# Altium schematic symbol library Power_EFR.SchLib: 28 symbols
Pins are listed as number, name and electrical type; pins without a type are passive.

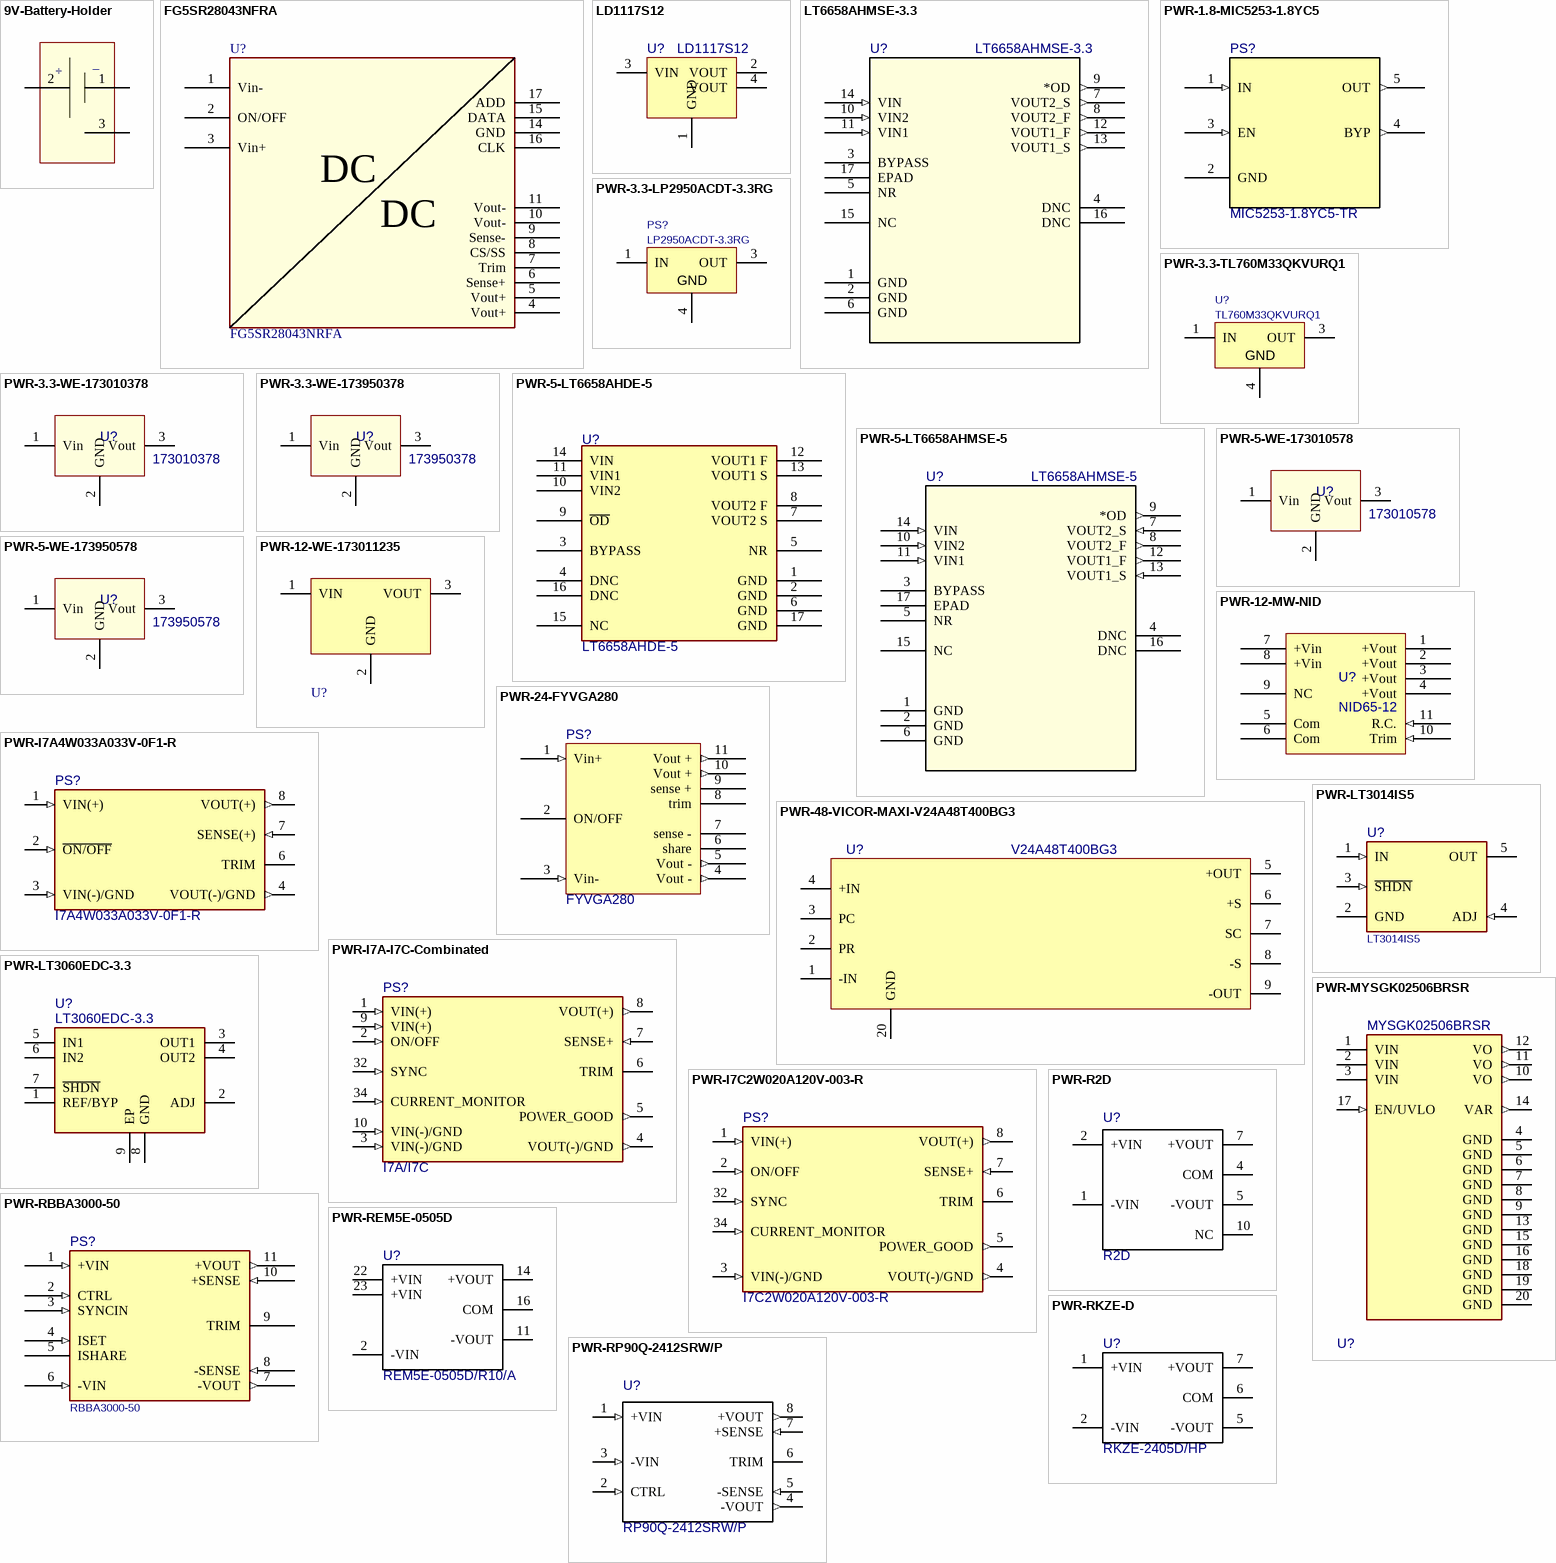
[diagram p0: symbols 9V-Battery-Holder to PWR-RP90Q-2412SRW/P]

## 9V-Battery-Holder
designator ?
footprint 12BH611-GR (9V Battery Holder)
pins: 1, 2, 3
text: _; +

## FG5SR28043NFRA
designator U?, comment PartNumber: FG5SR28043NRFA  (hidden comment: DCDC)  (no BOM)
DC/DC Full Brick Power Converter; Manufactuer: Delta Electronics
pins: 1 Vin- (power), 2 ON/OFF, 3 Vin+ (power), 4 Vout+ (power), 5 Vout+ (power), 6 Sense+, 7 Trim, 8 CS/SS, 9 Sense-, 10 Vout- (power), 11 Vout- (power), 14 GND, 15 DATA, 16 CLK, 17 ADD
text: DC

## LD1117S12
designator U?
Fixed Low Drop Positive Voltage Regulator, 1.2V, 4-Pin SOT-223, Tape and Reel; Manufacturer: STMicroelectronics; PackageDescription: 4-Pin SOT-223 Package, 6.5 x 3.5 mm Body, 2.3 mm Pitch, 7 mm Lead Span; ComponentLink2Description: Datasheet; PackageReference: SOT-223; ComponentLink2URL: http://www.st.com/internet/com/TECHNICAL_RESOURCES/TECHNICAL_LITERATURE/DATASHEET/CD00000544.pdf; ComponentLink1Description: Manufacturer URL; ComponentLink1URL: http://www.st.com; PartNumber: LD1117S12
footprint SOT223_N (SOT223, 4-Leads, Body 6.5x3.5mm, Pitch 2.3mm, Lead Span 7mm, IPC Medium Density)
footprint SOT223_M (SOT223, 4-Leads, Body 6.5x3.5mm, Pitch 2.3mm, Lead Span 7mm, IPC Low Density)
footprint SOT223_L (SOT223, 4-Leads, Body 6.5x3.5mm, Pitch 2.3mm, Lead Span 7mm, IPC High Density)
pins: 1 GND (power), 2 VOUT (power), 3 VIN (power), 4 VOUT (power)

## LT6658AHMSE-3.3
designator U?
Precision Dual Output, High Current, Low Noise, Voltage Reference 3V; Manufacturer: Analog Devices Inc; Copyright: Copyright (C) 2016 Accelerated Designs. All rights reserved; PartNumber: LT6658AHMSE-3.3; Type: DEV; ComponentLink1Description: Manufacturer; ComponentLink1URL: https://www.analog.com/en/products/lt6658.html; ComponentLink2Description: Datasheet; ComponentLink2URL: https://www.analog.com/media/en/technical-documentation/data-sheets/LT6658.pdf
footprint MSE_16_ADI
footprint DFN16_EP_L (AD)
footprint DFN16_EP_M (AD)
footprint DFN16_EP_N (AD)
pins: 1 GND (power), 2 GND (power), 3 BYPASS, 4 DNC, 5 NR, 6 GND (power), 7 VOUT2_S (out), 8 VOUT2_F (out), 9 *OD (out), 10 VIN2 (in), 11 VIN1 (in), 12 VOUT1_F (out), 13 VOUT1_S (out), 14 VIN (in), 15 NC, 16 DNC, 17 EPAD

## PWR-1.8-MIC5253-1.8YC5
designator PS?, comment MIC5253-1.8YC5-TR
100mA 1.8V Low Noise uCap Teeny™ LDO; Manufacturer: Microchip; PartNumber: MIC5253-1.8YC5-TR; ComponentLink1Description: Manufacturer; ComponentLink1URL: https://www.microchip.com/en-us/product/MIC5253; ComponentLink2Description: Datasheet; ComponentLink2URL: https://ww1.microchip.com/downloads/en/DeviceDoc/mic5253.pdf
footprint SC70-5_N (DCK5)
pins: 1 IN (in), 2 GND (power), 3 EN (in), 4 BYP (out), 5 OUT (out)

## PWR-3.3-LP2950ACDT-3.3RG
designator PS?, comment LP2950ACDT-3.3RG
Voltage Regulator - Low Power Low, Dropout 100mA 3.3V; Manufacturer: OnSemi; Vout Adj(Max)(V): 1.8; SubFamily: Single Channel LDO; Fixed Output Options(V): 1.8; ComponentLink2Description: Datasheet; PartNumber: LP2950ACDT-3.3RG; ComponentLink2URL: https://www.onsemi.com/pdf/datasheet/lp2950-d.pdf; ComponentLink1URL: https://www.onsemi.com/products/power-management/linear-regulators-ldo/lp2950; Mounting Technology: Surface Mount; Code_JEDEC: TO-252; ComponentLink1Description: Manufacturer; PackageDescription: 3-Pin Plastic Flange Mount, Body 6.1 x 6.6 mm, Pitch 2.29 mm
footprint TO-252_M (KVU) (DPAK, 3-Leads, Body 6.7x6.22mm, Pitch 2.29mm, IPC Low Density)
footprint TO-252_N (KVU) (DPAK, 3-Leads, Body 6.7x6.22mm, Pitch 2.29mm, IPC Medium Density)
footprint TO-252_L (KVU) (DPAK, 3-Leads, Body 6.7x6.22mm, Pitch 2.29mm, IPC High Density)
pins: 1 IN (power) "Input voltage. Connect to ground as close to device as possible, through a ceramic capacitor.", 3 OUT (power) "Output. Connect to ground with >=22-uF capacitor, ESR < 5 Ohm at 10 kHz.", 4 GND (power) "Ground. Internally connected to heatsink"

## PWR-3.3-TL760M33QKVURQ1
designator U?, comment TL760M33QKVURQ1
Single Output Automotive LDO, 500 mA, Fixed 3.3 V Output, 3.8 to 26 V Input, 3-pin PFM (KVU), -40 to 125 degC, Green (RoHS & no Sb/Br); Manufacturer: Texas Instruments; Vout Adj(Max)(V): 3.3; Iout(Max)(A): 0.5; Vin(Min)(V): 3.8; Vin(Max)(V): 26; Vdo(Typ)(mV): 500; Accuracy(%): 3; SubFamily: Single Channel LDO; Iq(Typ)(mA): 20; Fixed Output Options(V): 3.3; ComponentLink3URL: http://www.ti.com/litv/pdf/mpsf018c; ComponentLink2Description: Datasheet; PartNumber: TL760M33QKVURQ1; Rating: Automotive; ComponentLink2URL: http://www.ti.com/general/docs/lit/getliterature.tsp?genericPartNumber=TL760M33-Q1&fileType=pdf; Eco-Plan: Green (RoHS & no Sb/Br); ComponentLink1URL: http://www.ti.com/; Mounting Technology: Surface Mount; ComponentLink4URL: Samples URL:http://www.ti.com/product/tl760m33-q1#samples; Code_JEDEC: TO-252; ComponentLink3Description: Package Specification; PackageReference: KVU0003A; Vout Adj(Min)(V): 3.3; ComponentLink1Description: Manufacturer URL; ComponentLink4Description: URL Link1; DatasheetVersion: SGLS284I; PackageDescription: 3-Pin Plastic Flange Mount, Body 6.1 x 6.6 mm, Pitch 2.29 mm; PackageVersion: 4205521-2/D
footprint TO-252_M (KVU) (DPAK, 3-Leads, Body 6.7x6.22mm, Pitch 2.29mm, IPC Low Density)
footprint TO-252_N (KVU) (DPAK, 3-Leads, Body 6.7x6.22mm, Pitch 2.29mm, IPC Medium Density)
footprint TO-252_L (KVU) (DPAK, 3-Leads, Body 6.7x6.22mm, Pitch 2.29mm, IPC High Density)
pins: 1 IN (power) "Input voltage. Connect to ground as close to device as possible, through a ceramic capacitor.", 3 OUT (power) "Output. Connect to ground with >=22-uF capacitor, ESR < 5 Ohm at 10 kHz.", 4 GND (power) "Ground. Internally connected to heatsink"

## PWR-3.3-WE-173010378
designator U?, comment 173010378
MagI³C-FDSM Fixed Step Down Regulator Module; Manufacturer: Wurth Elektronik; InputVoltage: 7-28V; OutputCurrent: 1A; OutputVoltage: 3.3V; PinNumber: 3; PublishedDate: Aug 2016; ComponentLink1Description: Datasheet (Online); ComponentLink1URL: https://katalog.we-online.de/pm/datasheet/173010378.pdf; ComponentLink2Description: Datasheet (Local); ComponentLink2URL: ..\Datasheet\Wuerth_Elektronik\173010378.pdf; PartNumber: 173010378; Package: SIP-3; ComponentLink3Description: Datasheet (SVN); ComponentLink3URL: https://teamsvn.elbflorace.de/00_Bibliothek/Libraries/Altium/AltiumLibs/Datasheet/Wuerth_Elektronik/173010378.pdf; ComponentLink4Description: Manufacturer-Site; ComponentLink4URL: https://katalog.we-online.de/de/pm/MAGIC_FDSM_FIXED_OUTPUT_VOLTAGE/S/17301037
footprint WE-FDSM_173010x78 (SIP-3, Body 11.6x8.5x10.5)
pins: 1 Vin (power), 2 GND (power), 3 Vout (power)

## PWR-3.3-WE-173950378
designator U?, comment 173950378
MagI³C-FDSM Fixed Step Down Regulator Module; Manufacturer: Wurth Elektronik; InputVoltage: 6-28V; OutputCurrent: 0.5A; OutputVoltage: 3.3; PinNumber: 3; PublishedDate: Aug 2016; ComponentLink1Description: Datasheet (Online); ComponentLink1URL: https://katalog.we-online.de/pm/datasheet/173950378.pdf; ComponentLink2Description: Datasheet (Local); ComponentLink2URL: ..\Datasheet\Wuerth_Elektronik\173950378.pdf; PartNumber: 173950378; Package: SIP-3; ComponentLink3Description: Datasheet (SVN); ComponentLink3URL: https://teamsvn.elbflorace.de/00_Bibliothek/Libraries/Altium/AltiumLibs/Datasheet/Wuerth_Elektronik/173950378.pdf; ComponentLink4Description: Manufacturer-Site; ComponentLink4URL: https://katalog.we-online.de/de/pm/MAGIC_FDSM_FIXED_OUTPUT_VOLTAGE/S/173950378
footprint WE-FDSM_173010x78 (SIP-3, Body 11.6x8.5x10.5)
pins: 1 Vin (power), 2 GND (power), 3 Vout (power)

## PWR-5-LT6658AHDE-5
designator U?, comment LT6658AHDE-5
Precision Dual Output, High Current, / Low Noise, Voltage Reference; Manufacturer: Linear Technology; PartNumber: LT6658AHDE-5; ComponentLink1Description: Manufacturer; ComponentLink1URL: https://www.analog.com/en/products/lt6658.html; ComponentLink2Description: Datasheet; ComponentLink2URL: https://www.analog.com/media/en/technical-documentation/data-sheets/LT6658.pdf
footprint DFN16_EP_M (AD)
footprint DFN16_EP_N (AD)
footprint DFN16_EP_L (AD)
pins: 1 GND (power), 2 GND (power), 3 BYPASS, 4 DNC, 5 NR, 6 GND (power), 7 VOUT2 S (power), 8 VOUT2 F (power), 9 ~{OD}, 10 VIN2 (power), 11 VIN1 (power), 12 VOUT1 F (power), 13 VOUT1 S (power), 14 VIN (power), 15 NC, 16 DNC, 17 GND (power)

## PWR-5-LT6658AHMSE-5
designator U?, comment LT6658AHMSE-5
Precision Dual Output, High Current, / Low Noise, Voltage Reference; Manufacturer: Analog Devices / Linear Technology; Built_By: EMA_Jessica; Reference Voltage: 5V; Temperature Coefficient: 10ppm/°C; Copyright: Copyright (C) 2016 Accelerated Designs. All rights reserved; RefDes: RefDes; Type: DEV; ComponentLink1Description: Datasheet; ComponentLink1URL: https://www.analog.com/media/en/technical-documentation/data-sheets/LT6658.pdf; ComponentLink2Description: Manufacturer; ComponentLink2URL: https://www.analog.com/en/products/LT6658.html; PartNumber: LT6658AHMSE-5; RoHS: Yes; Category: Voltage References; Case/Package: MSOP; Number of Pins: 16; Min Operating Temperature: -40°C; Max Operating Temperature: 85°C; RoHS Compliant: Yes; REACH SVHC: No SVHC
footprint MSOP_16_L
footprint MSOP_16_N (16-Lead Plastic MSOP)
footprint MSOP_16_M
pins: 1 GND (power), 2 GND (power), 3 BYPASS, 4 DNC, 5 NR, 6 GND (power), 7 VOUT2_S (in), 8 VOUT2_F (out), 9 *OD (out), 10 VIN2 (in), 11 VIN1 (in), 12 VOUT1_F (out), 13 VOUT1_S (in), 14 VIN (in), 15 NC, 16 DNC, 17 EPAD

## PWR-5-WE-173010578
designator U?, comment 173010578
MagI³C-FDSM Fixed Step Down Regulator Module; Manufacturer: Wurth Elektronik; InputVoltage: 8-28V; OutputCurrent: 1A; OutputVoltage: 5V; PinNumber: 3; PublishedDate: Aug 2016; ComponentLink1Description: Datasheet (Online); ComponentLink1URL: https://katalog.we-online.de/pm/datasheet/173010578.pdf; ComponentLink2Description: Datasheet (Local); ComponentLink2URL: ..\Datasheet\Wuerth_Elektronik\173010578.pdf; PartNumber: 173010578; Package: SIP-3; ComponentLink3Description: Datasheet (SVN); ComponentLink3URL: https://teamsvn.elbflorace.de/00_Bibliothek/Libraries/Altium/AltiumLibs/Datasheet/Wuerth_Elektronik/173010578.pdf; ComponentLink4Description: Manufacturer-Site; ComponentLink4URL: https://katalog.we-online.de/de/pm/MAGIC_FDSM_FIXED_OUTPUT_VOLTAGE/S/173010578#vs_ct:1
footprint WE-FDSM_173010x78 (SIP-3, Body 11.6x8.5x10.5)
pins: 1 Vin (power), 2 GND (power), 3 Vout (power)

## PWR-5-WE-173950578
designator U?, comment 173950578
MagI³C-FDSM Fixed Step Down Regulator Module; Manufacturer: Wurth Elektronik; InputVoltage: 7-28V; OutputCurrent: 0.5A; OutputVoltage: 5V; PinNumber: 3; PublishedDate: Aug 2016; ComponentLink1Description: Datasheet (Online); ComponentLink1URL: https://katalog.we-online.de/pm/datasheet/173950578.pdf; ComponentLink2Description: Datasheet (Local); ComponentLink2URL: ..\Datasheet\Wuerth_Elektronik\173950578.pdf; PartNumber: 173950578; ComponentLink3Description: Datasheet (SVN); ComponentLink3URL: https://teamsvn.elbflorace.de/00_Bibliothek/Libraries/Altium/AltiumLibs/Datasheet/Wuerth-Elektronik/173950578.pdf; ComponentLink4Description: Manufacturer-Site; ComponentLink4URL: https://katalog.we-online.de/de/pm/MAGIC_FDSM_FIXED_OUTPUT_VOLTAGE/S/173950578; Package: SIP-3
footprint WE-FDSM_173010x78 (SIP-3, Body 11.6x8.5x10.5)
pins: 1 Vin (power), 2 GND (power), 3 Vout (power)

## PWR-12-MW-NID
designator U?, comment NID65-12
Manufacturer: Mean Well; PinNumber: 11; ComponentLink1Description: Datasheet; ComponentLink1URL: http://www.meanwellusa.com/webapp/product/search.aspx?prod=NID65#1; PartNumber: NID65-12
footprint MW-NID (MeanWell NID Series)
pins: 1 +Vout (power), 2 +Vout (power), 3 +Vout (power), 4 +Vout (power), 5 Com (power), 6 Com (power), 7 +Vin (power), 8 +Vin (power), 9 NC, 10 Trim (in), 11 R.C. (in)

## PWR-12-WE-173011235
designator U?, comment 16-36Vin, 12Vout, 1Aout  (value not drawn)
WPME-FDSM Fixed Step Down Regulator Module, SIP-3, 16-36Vin, 12Vout, 1Aout; Manufacturer: Wurth Elektronik; Manufacturer Part Number: 173011235; Input Voltage Min: 16V; Input Voltage Max: 36V; Output Current: 1A; Output Voltage: 12V; ComponentLink1Description: Manufacturer Link; ComponentLink1URL: https://www.we-online.com/redexpert/article/173011235?ad; ComponentLink2Description: Datasheet; ComponentLink2URL: https://www.we-online.com/redexpert/spec/173011235?ad; Category: Step Down Converter; Match Code: WPME-FDSM; Mount: Through Hole; Operating Temperature Max: 85°C; Operating Temperature Min: -40°C; Packaging: Tube; Case/Size Code: SIP-3; Length: 11.6mm; Width: 8mm; Height: 10.4mm
footprint WPME-FDSM_SIP-3_L11.6W8H10.4
pins: 1 VIN, 2 GND, 3 VOUT

## PWR-24-FYVGA280
designator PS?, comment FYVGA280
800W DC/DC Powermodule
footprint PWR_24_FYVGA280 (800W DCDC)
pins: 1 Vin+ (in), 2 ON/OFF, 3 Vin- (in), 4 Vout - (out), 5 Vout - (out), 6 share, 7 sense -, 8 trim, 9 sense +, 10 Vout + (out), 11 Vout + (out)

## PWR-48-VICOR-MAXI-V24A48T400BG3
designator U?, comment V24A48T400BG3
ComponentLink1Description: Website; ComponentLink1URL: https://www.vicorpower.com/products?productType=cfg&productKey=V24A48T400BG3; ComponentLink2Description: Datasheet; ComponentLink2URL: https://www.vicorpower.com/documents/datasheets/ds_24vin-maxi-family.pdf
footprint Vicor_maxi
pins: 1 -IN, 2 PR, 3 PC, 4 +IN, 5 +OUT, 6 +S, 7 SC, 8 -S, 9 -OUT, 20 GND

## PWR-I7A4W033A033V-0F1-R
designator PS?, comment I7A4W033A033V-0F1-R
Non-Isolated PoL Module DC DC Converter 1 Output 3.3V ~ 24V 33A 18V - 60V Input; Manufacturer: TDK-Lambda Americas Inc; PartNumber: I7A4W033A033V-0F1-R; Purchase-URL: https://pricing.snapeda.com/search/part/I7A4W033A033V-0F1-R/?ref=eda; ComponentLink1Description: Manufacturer; ComponentLink1URL: https://product.tdk.com/en/search/power/switching-power/dc-dc-converter/info?part_no=i7A4W033A033V-0F1-R; ComponentLink2Description: Datasheet; ComponentLink2URL: https://product.tdk.com/system/files/dam/doc/product/power/switching-power/dc-dc-converter/catalog/i7a_e.pdf; ComponentLink3Description: SnapEDA; ComponentLink3URL: https://www.snapeda.com/parts/I7A4W033A033V-0F1-R/TDK-Lambda+Americas+Inc/view-part/?ref=snap
footprint TDK_I7A_Standard
pins: 1 VIN(+) (in), 2 ~{ON/OFF} (in), 3 VIN(-)/GND (in), 4 VOUT(-)/GND (out), 6 TRIM, 7 SENSE(+) (in), 8 VOUT(+) (out)

## PWR-I7A-I7C-Combinated
designator PS?, comment I7A/I7C
Non-Isolated PoL Module DC DC Converter 1 Output 8 ~ 24V - - - 20A 9V - 36V Input; Manufacturer: TDK-Lambda Americas Inc; Package: DIP-8 TDK-Lambda; PartNumber: I7A/I7C; ComponentLink1Description: Manufacturer; ComponentLink1URL: https://product.tdk.com/de/search/power/switching-power/dc-dc-converter/info?part_no=i7C2W020A120V-003-R; ComponentLink2Description: Datasheet I7C; ComponentLink2URL: https://product.tdk.com/system/files/dam/doc/product/power/switching-power/dc-dc-converter/catalog/i7c_e.pdf; ComponentLink3Description: SnapEDA; ComponentLink3URL: https://www.snapeda.com/parts/I7C2W020A120V-003-R/TDK-Lambda+Americas+Inc/view-part/?ref=snap
footprint TDK_I7A-I7C_Full_Features
pins: 1 VIN(+) (in), 2 ON/OFF (in), 3 VIN(-)/GND (in), 4 VOUT(-)/GND (out), 5 POWER_GOOD (out), 6 TRIM, 7 SENSE+ (in), 8 VOUT(+) (out), 9 VIN(+) (in), 10 VIN(-)/GND (in), 32 SYNC (in), 34 CURRENT_MONITOR (in)

## PWR-I7C2W020A120V-003-R
designator PS?, comment I7C2W020A120V-003-R
Non-Isolated PoL Module DC DC Converter 1 Output 8 ~ 24V - - - 20A 9V - 36V Input; Manufacturer: TDK-Lambda Americas Inc; Package: DIP-8 TDK-Lambda; PartNumber: I7C2W020A120V-003-R; ComponentLink1Description: Manufacturer; ComponentLink1URL: https://product.tdk.com/de/search/power/switching-power/dc-dc-converter/info?part_no=i7C2W020A120V-003-R; ComponentLink2Description: Datasheet; ComponentLink2URL: https://product.tdk.com/system/files/dam/doc/product/power/switching-power/dc-dc-converter/catalog/i7c_e.pdf; ComponentLink3Description: SnapEDA; ComponentLink3URL: https://www.snapeda.com/parts/I7C2W020A120V-003-R/TDK-Lambda+Americas+Inc/view-part/?ref=snap
footprint TDK_I7C_Full_Features
pins: 1 VIN(+) (in), 2 ON/OFF (in), 3 VIN(-)/GND (in), 4 VOUT(-)/GND (out), 5 POWER_GOOD (out), 6 TRIM, 7 SENSE+ (in), 8 VOUT(+) (out), 32 SYNC (in), 34 CURRENT_MONITOR (in)

## PWR-LT3014IS5
designator U?, comment LT3014IS5
20mA, IN 3V to 80V, OUT 1.22V to 60V Low Dropout Micropower Linear Regulator; Manufacturer: Analog Devices; Pin Number: 5; Supllier 1: Mouser; Package: ThinSOT; Manufacturer P/N: LT3014IS5; ComponentLink1Description: Website; ComponentLink1URL: https://www.analog.com/en/products/lt3014.html; ComponentLink2Description: Datasheet; ComponentLink2URL: https://www.analog.com/media/en/technical-documentation/data-sheets/3014fd.pdf; ComponentLink3Description: SnapEDA; ComponentLink3URL: https://www.snapeda.com/parts/LT3014IS5%23TRPBF/Analog+Devices/view-part/?ref=snap; Mounting Technology: SMT; Supplier Part Number 1: 584-LT3014IS5#TRPBF; Supllier 2: Mouser; Supplier Part Number 2: 584-LT3014IS5#TRMPBF
footprint TSOT-23_L
footprint TSOT-23_N
footprint TSOT-23_M
footprint TSOT-23_MFG
pins: 1 IN (in), 2 GND (power), 3 ~{SHDN} (in), 4 ADJ (in), 5 OUT (power)

## PWR-LT3060EDC-3.3
designator U?, comment LT3060EDC-3.3
45V VIN, Micropower,  Low Noise, 100mA Low  Dropout, Linear Regulator; Manufacturer: Linear Technology; PartNumber: LT3060EDC-3.3#TRMPBF; Height: 0.8mm; ComponentLink1Description: Datasheet; ComponentLink1URL: https://www.analog.com/media/en/technical-documentation/data-sheets/3060fc.pdf; ComponentLink2Description: Manufacturer; ComponentLink2URL: https://www.analog.com/en/products/lt3060.html; Supplier 1: Mouser; Supplier Part Number 1: 584-3060EDC-3.3TMPF
footprint DFN-9_N (Analog Devices DFN-8)
pins: 1 REF/BYP, 2 ADJ, 3 OUT1, 4 OUT2, 5 IN1, 6 IN2, 7 ~{SHDN}, 8 GND, 9 EP

## PWR-MYSGK02506BRSR
designator U?, comment MYSGK02506BRSR
MonoBlock type POL, High input 6A DC-DC converter series; Manufacturer: Murata Electronics; ComponentLink1Description: Manufacturer; ComponentLink1URL: https://power.murata.com/mysgk02506brsr.html; ComponentLink2Description: Datasheet; ComponentLink2URL: https://power.murata.com/datasheet?/data/power/mysgk02506brsr.pdf; PartNumber: MYSGK02506BRSR
footprint Murata_0_MFG
pins: 1 VIN (power), 2 VIN (power), 3 VIN (power), 4 GND (power), 5 GND (power), 6 GND (power), 7 GND (power), 8 GND (power), 9 GND (power), 10 VO (out), 11 VO (out), 12 VO (out), 13 GND (power), 14 VAR (out), 15 GND (power), 16 GND (power), 17 EN/UVLO (in), 18 GND (power), 19 GND (power), 20 GND (power)

## PWR-R2D
designator U?, comment R2D
DC DC CONVERTER +/-5V 2W; PartNumber: R2D-2405/HP; Manufacturer: Recom Power; Package: SMD-10 Recom Power; Price: None; Availability: Unavailable; SnapEDA_Link: https://www.snapeda.com/parts/R2D-2405/HP/Recom%20Power/view-part/?ref=snap; Value: *
footprint Recom_R2D
pins: 1 -VIN (power), 2 +VIN (power), 4 COM (power), 5 -VOUT (power), 7 +VOUT (power), 10 NC

## PWR-RBBA3000-50
designator PS?, comment RBBA3000-50
Non-Isolated PoL Module DC DC Converter 1 Output 0 ~ 60V 50A 9V - 60V Input; Manufacturer: Recom Power; Manufacturer P/N: RBBA3000-50; Package: Half Brick; Pin Count: 11; ComponentLink1Description: Website; ComponentLink1URL: https://recom-power.com/de/products/switching-regulators/switching-regulators-high-power/rec-p-RBBA3000-50.html; ComponentLink2Description: Datasheet; ComponentLink2URL: https://recom-power.com/de/products/switching-regulators/switching-regulators-high-power/rec-p-RBBA3000-50.html?0-2.-layout-layout-main-layout_body-layout_body-main-dataView-viewContainer-rows-3-item-dataView-tabs-contentContainer-panels-1-panel-dataView-viewContainer-rows-1-item-mediaTable-body-rows-3-cells-1-cell-downloadLink; ComponentLink3Description: SnapEDA; ComponentLink3URL: https://www.snapeda.com/parts/RBBA3000-50/Recom%20Power/view-part/4388246/?ref=snap; Mounting Technology: THT
footprint Half-Brick_Recom
pins: 1 +VIN (in), 2 CTRL (in), 3 SYNCIN (in), 4 ISET (in), 5 ISHARE, 6 -VIN (in), 7 -VOUT (out), 8 -SENSE (in), 9 TRIM, 10 +SENSE (in), 11 +VOUT (out)

## PWR-REM5E-0505D
designator U?, comment REM5E-0505D/R10/A
5W DC/DC-Converter 'MEDLINE' DIP24 10kV reg 2:1; Manufacturer: Recom Power; SnapEDA_Link: https://www.snapeda.com/parts/REM5E-0505D/R10/A/Recom%20Power/view-part/?ref=snap; Package: DIP-24 Recom Power; PartNumber: REM5E-0505D/R10/A; ComponentLink1Description: Datasheet; ComponentLink1URL: https://recom-power.com/pdf/Medline_DC-DC/REM5E.pdf
footprint PWR-REM5E-0505D (Recom Power)
pins: 2 -VIN (power), 11 -VOUT (power), 14 +VOUT (power), 16 COM (power), 22 +VIN (power), 23 +VIN (power)

## PWR-RKZE-D
designator U?, comment RKZE-2405D/HP
2W DC/DC-Converter 'ECONOLINE' SIP7 4kV unreg; Manufacturer: Recom Power; Package: None; PartNumber: RKZE-2405D/HP; Price: None; Availability: Unavailable; SnapEDA_Link: https://www.snapeda.com/parts/RKZE-2405D/HP/Recom%20Power/view-part/?ref=snap; Value: *; ComponentLink1Description: Datasheet; ComponentLink1URL: https://recom-power.com/pdf/Econoline/RKZE.pdf; ComponentLink2Description: Manufacturer; ComponentLink2URL: https://recom-power.com/de/products/dc-dc-converters/rec-p-RKZE-2405D!sHP.html?11
footprint RECOM_SIP7 (Footprint not found)
pins: 1 +VIN (power), 2 -VIN (power), 5 -VOUT (power), 6 COM (power), 7 +VOUT (power)

## PWR-RP90Q-2412SRW/P
designator U?, comment RP90Q-2412SRW/P
90W DC/DC-Converter 'POWERLINE' 1/4 Brick 2.25kV r; Manufacturer: Recom Power; PinNumber: 8; Package: Quarter Brick Recom Power; Price: None; Availability: Unavailable; PartNumber: RP90Q-2412SRW/P; SnapEDA_Link: https://www.snapeda.com/parts/RP90Q-2412SRW/P/Recom%20Power/view-part/3644678/?ref=snap; ComponentLink1Description: Datasheet; ComponentLink1URL: https://recom-power.com/pdf/Powerline_DC-DC/RP90Q-RW.pdf; ComponentLink2Description: Manufacturer; ComponentLink2URL: https://recom-power.com/de/products/dc-dc-converters/rec-s-RP90Q-RW.html; Value: *; Typ: *; Voltage (V): *; Tolerance: *; Capacitance: *; Resistance: *; Power (W): *; Current (A): *
footprint RECOM_RP90Q-2412SRW
pins: 1 +VIN (in), 2 CTRL (in), 3 -VIN (in), 4 -VOUT (out), 5 -SENSE (in), 6 TRIM, 7 +SENSE (in), 8 +VOUT (out)